# EAGLE library part 0473521001 (library connectors-molex)
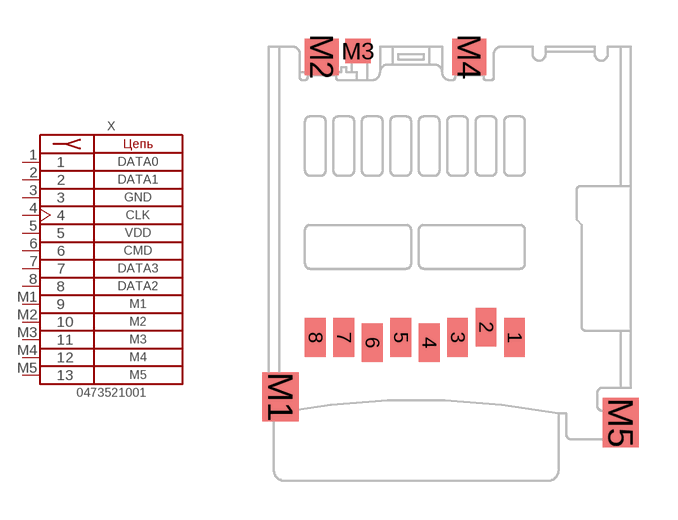
[diagram p11: symbol with the pads of 0473521001; footprint 0473521001]

Designator prefix X

## 0473521001  [0473521001]
1  1  pas
2  2  pas
3  3  pas
4  4  pas
5  5  pas
6  6  pas
7  7  pas
8  8  pas
M1  9  pas
M2  10  pas
M3  11  pas
M4  12  pas
M5  13  pas

## Footprint 0473521001 (pad centres in mm)
smd 0.8 x 1.5: 1 2.6,-4.16; 2 1.5,-3.76; 3 0.4,-4.16; 4 -0.7,-4.36; 5 -1.8,-4.16; 6 -2.9,-4.36; 7 -4,-4.16; 8 -5.1,-4.16
smd 1.4 x 1.9: M1 -6.45,-6.45; M5 6.7,-7.45
smd 1.3 x 1.4: M2 -4.85,6.7; M4 0.85,6.7
smd 1 x 0.95: M3 -3.45,6.925